# EAGLE library part LTC2942 (library PowerBoard)
LTC2942-1/2 Linear Technology Battery Gas Gauge with Temperature, Voltage Measurement, 6-pin DFN 2x3mm Note: LTC2942 requires an external sense resistor, while LTC2942-1 features a 50 mΩ integrated sense resistor Source: http://cds.linear.com/docs/Datasheet/29421f.pdf http://cds.linear.com/docs/Datasheet/2942fa.pdf
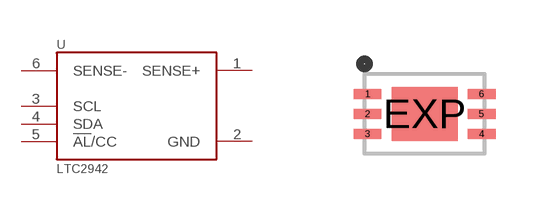
[diagram p2: symbol with the pads of DFN-6; footprint DFN-6]

Designator prefix U

## LTC2942 (DIGI-KEY#: LTC2942CDCB#TRMPBFCT-ND; MF: Linear Technology; MPN: LTC2942CDCB#TRMPBF), LTC2942-1 (DIGI-KEY#: LTC2942CDCB-1#TRMPBFCT-ND; MF: Linear Technology; MPN: LTC2942CDCB-1#TRMPBF)  [DFN-6]
1  SENSE+  pas
2  GND  pwr
3  SCL  in
4  SDA  oc
5  !AL!/CC
6  SENSE-  pas
EXP  EXP  pwr

## Footprint DFN-6 (pad centres in mm)
DFN-6 Small 6-pin 2 x 3 mm DFN SMD package Source: http://cds.linear.com/docs/Datasheet/29421f.pdf
smd 0.7 x 0.25: 1 -1.425,0.5; 2 -1.425,0; 3 -1.425,-0.5; 4 1.425,-0.5; 5 1.425,0; 6 1.425,0.5
smd 1.65 x 1.35: EXP 0,0